# Altium schematic symbol library ic.SchLib: 24 symbols
Pins are listed as number, name and electrical type; pins without a type are passive.

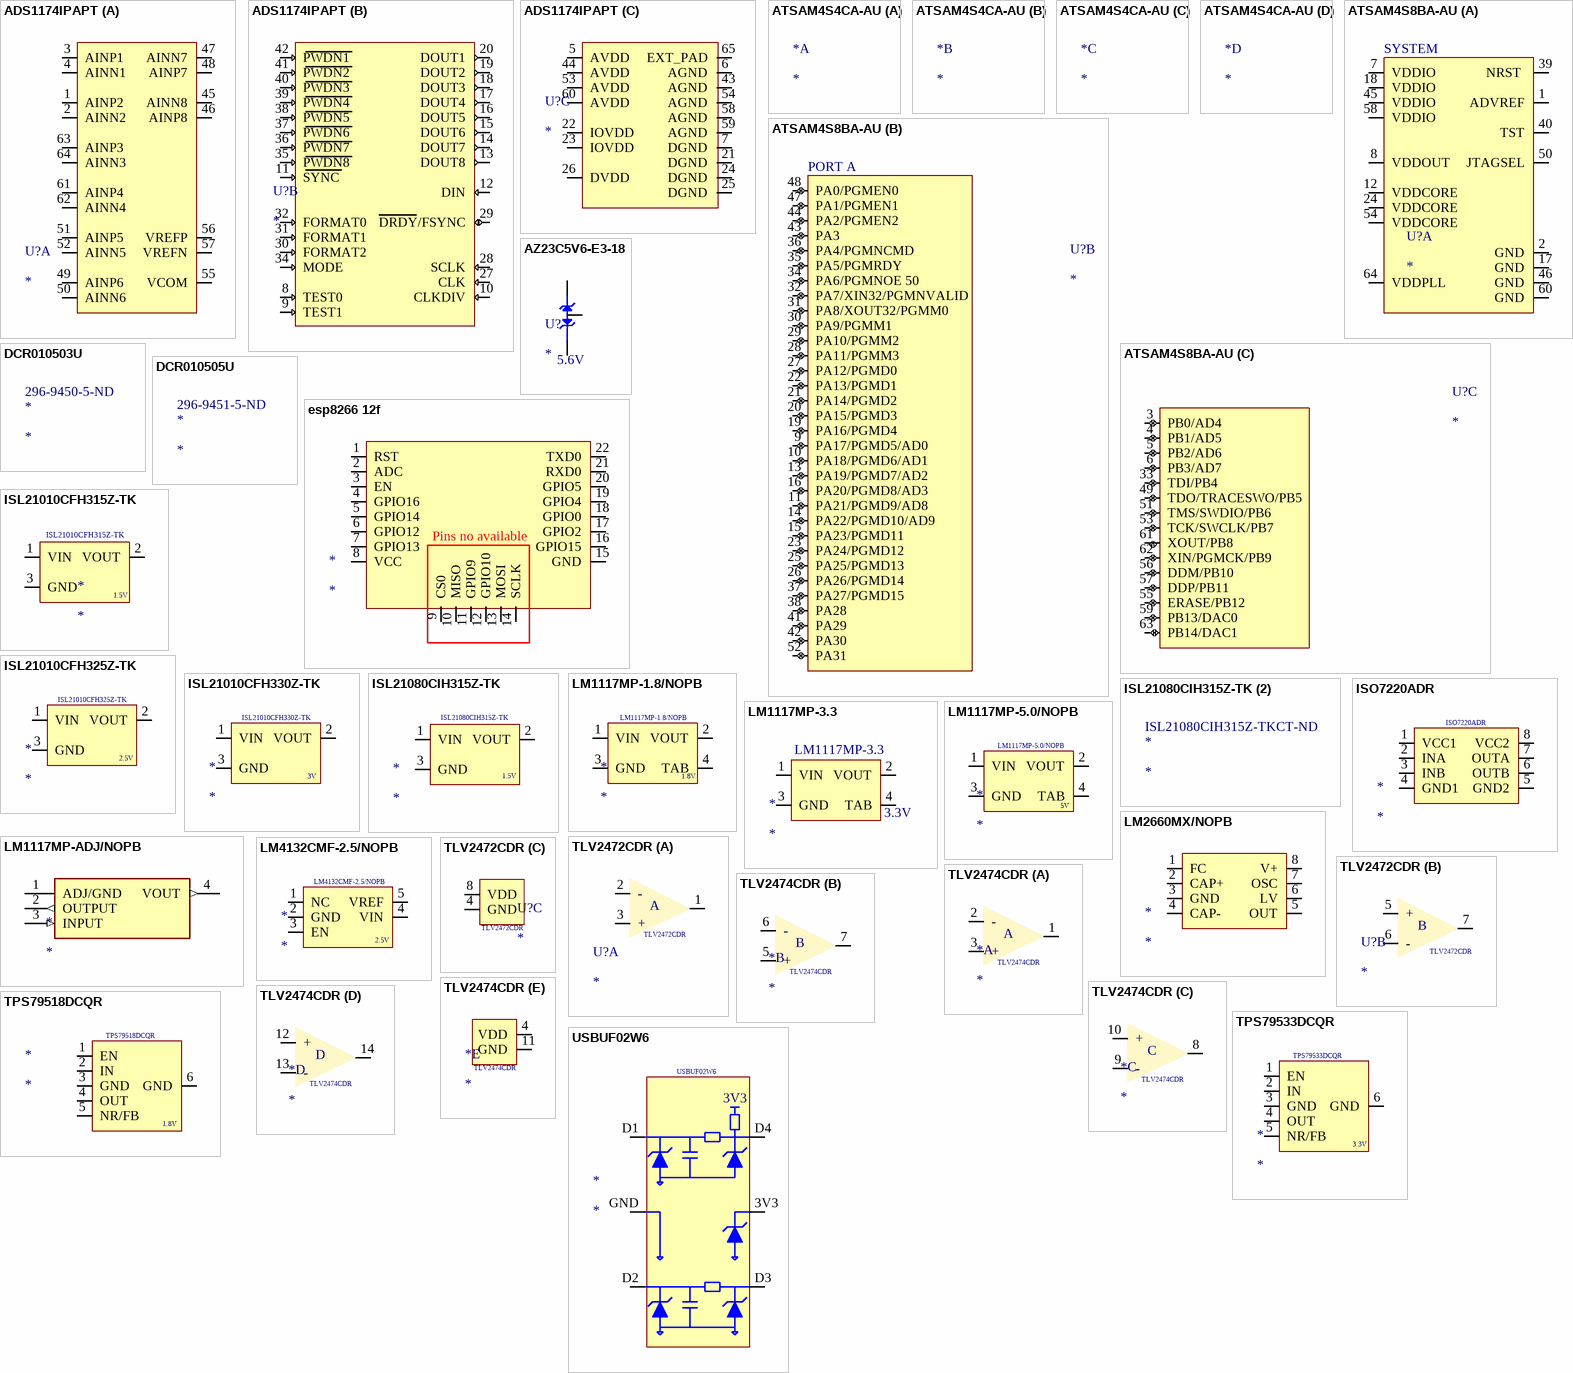
[diagram p0: symbols ADS1174IPAPT to USBUF02W6]

## ADS1174IPAPT
designator U?
Octal Channel Quad ADC Delta-Sigma 52ksps 16-bit Serial 64-Pin HTQFP EP T/R; Manufacturer 1: Texas Instruments; Manufacturer Part Number 1: ADS1174IPAPT; Number of Inputs: 4; Interface: SPI; Nominal Supply Current: 23mA; Max Supply Voltage: 5.25V; Min Supply Voltage: 4.75V; Max Power Dissipation: 210mW; Operating Supply Voltage: 5V; Resolution: 16b; Number of Bits: 16; Sampling Rate: 52KS/s; Signal to Noise Ratio (SNR): 97dB; Number of Analog Inputs: 8; Polarity: Bipolar; Power Dissipation: 135mW; Supply Type: Analog,Digital; Integral Nonlinearity (INL): 1LSB; Input Type: SINGLE-ENDED; Supplier 1: Digi-Key; Stock 1: 229; Pricing 1: 1=16,29000, 10=14,97100, 25=14,35040, 100=12,80650 (USD); RoHS: Yes; Mount: Surface Mount; Case/Package: HTQFP; Number of Pins: 64; Contact Plating: Gold; Min Operating Temperature: -40°C; Max Operating Temperature: 85°C; Number of Channels: 4; Package Quantity: 250; Packaging: Tape and Reel; Number of Converters: 4; Termination: SMD/SMT; Number of A/D Converters: 4; Number of Elements: 4; Conversion Rate: 52KS/s; Power Consumption: 135mW; Differential Nonlinearity: 1LSB; Supply Current: 23mA; Length: 10.2mm; Width: 10.2mm; Height: 1.05mm; REACH SVHC: No SVHC; Lead Free: Lead Free; RoHS Compliant: Yes; ComponentLink1URL: https://datasheet.ciiva.com/7226/46094-7226797.pdf?src-supplier=Newark; ComponentLink1Description: https://datasheet.ciiva.com/7226/46094-7226797.pdf?src-supplier=Newark; ComponentLink2URL: https://datasheet.ciiva.com/41461/001186699-da-01-en-ic-adc-16bit-q-ads1174ipapt-htqfp-64-tid-41461041.pdf?src-supplier=Conrad; ComponentLink2Description: https://datasheet.ciiva.com/41461/001186699-da-01-en-ic-adc-16bit-q-ads1174ipapt-htqfp-64-tid-41461041.pdf?src-supplier=Conrad; ComponentLink3URL: https://datasheet.ciiva.com/26800/ads1174ipapt-26800957.pdf?src-supplier=IIIC; ComponentLink3Description: https://datasheet.ciiva.com/26800/ads1174ipapt-26800957.pdf?src-supplier=IIIC; ComponentLink4URL: https://datasheet.ciiva.com/1704/1831206-1704289.pdf?src-supplier=Element14; ComponentLink4Description: https://datasheet.ciiva.com/1704/1831206-1704289.pdf?src-supplier=Element14; ComponentLink5URL: https://datasheet.ciiva.com/1264/ads1174-1264637.pdf?src-supplier=Digi-Key; ComponentLink5Description: https://datasheet.ciiva.com/1264/ads1174-1264637.pdf?src-supplier=Digi-Key; ComponentLink6URL: https://datasheet.ciiva.com/1264/ads1174-1264636.pdf?src-supplier=Digi-Key; ComponentLink6Description: https://datasheet.ciiva.com/1264/ads1174-1264636.pdf?src-supplier=Digi-Key; ComponentLink7URL: https://datasheet.ciiva.com/1264/ads1174-1264638.pdf?src-supplier=Digi-Key; ComponentLink7Description: https://datasheet.ciiva.com/1264/ads1174-1264638.pdf?src-supplier=Digi-Key; ComponentLink8URL: https://datasheet.ciiva.com/14257/sbas373b-14257851.pdf?src-supplier=Avnet; ComponentLink8Description: https://datasheet.ciiva.com/14257/sbas373b-14257851.pdf?src-supplier=Avnet; Supplier Part Number 1: 296-22951-1-ND
footprint adc
part A pins: 1 AINP2, 2 AINN2, 3 AINP1, 4 AINN1, 45 AINN8, 46 AINP8, 47 AINN7, 48 AINP7, 49 AINP6, 50 AINN6, 51 AINP5, 52 AINN5, 55 VCOM, 56 VREFP, 57 VREFN, 61 AINP4, 62 AINN4, 63 AINP3, 64 AINN3
part B pins: 8 TEST0, 9 TEST1, 10 CLKDIV, 11 SYNC, 12 DIN, 13 DOUT8, 14 DOUT7, 15 DOUT6, 16 DOUT5, 17 DOUT4, 18 DOUT3, 19 DOUT2, 20 DOUT1, 27 CLK, 28 SCLK, 29 DRDY/FSYNC, 30 FORMAT2, 31 FORMAT1, 32 FORMAT0, 34 MODE, 35 PWDN8, 36 PWDN7, 37 PWDN6, 38 PWDN5, 39 PWDN4, 40 PWDN3, 41 PWDN2, 42 PWDN1
part C pins: 5 AVDD, 6 AGND, 7 DGND, 21 DGND, 22 IOVDD, 23 IOVDD, 24 DGND, 25 DGND, 26 DVDD, 43 AGND, 44 AVDD, 53 AVDD, 54 AGND, 58 AGND, 59 AGND, 60 AVDD, 65 EXT_PAD

## ATSAM4S4CA-AU
designator *
ATMEL         ATSAM4S4CA-AU            32 Bit Microcontroller, SAM4S Series, ARM Cortex-M4, 120 MHz, 256 KB, 64 KB, 100 Pins, LQFP; Manufacturer 1: Microchip / Atmel; Min Supply Voltage: 1.08V; Max Supply Voltage: 1.32V; Frequency: 120MHz; Interface: I2C,SPI,USB,IrDA,UART,USART,EBI/EMI,I2S; Number of I/Os: 79; Oscillator Type: Internal; RAM Size: 64KB; Memory Type: FLASH; Memory Size: 256KB; Data Bus Width: 32b; Number of ADC Channels: 16; Number of Timers/Counters: 2; Peripherals: Brown-out Detect/Reset,POR,PWM,WDT,DMA; Operating Supply Voltage: 1.2V; Supplier 1: Future Electronics; Manufacturer Part Number 1: ATSAM4S4CA-AU; Stock 1: 0; RoHS: Yes; Case/Package: LQFP; Number of Pins: 100; Weight: 0.04653oz; Min Operating Temperature: -40°C; Max Operating Temperature: 85°C; Package Quantity: 160; Packaging: Tray; Max Frequency: 120MHz; Core Architecture: ARM; RoHS Compliant: Yes; REACH SVHC: No SVHC; Lead Free: Lead Free; ComponentLink1URL: http://www.atmel.com/images/11177d-atarm4s_e_us_121013_web%20final.pdf?src-supplier=Mouser; ComponentLink1Description: http://www.atmel.com/images/11177d-atarm4s_e_us_121013_web%20final.pdf?src-supplier=Mouser; ComponentLink2URL: http://www.farnell.com/datasheets/1794215.pdf?src-supplier=Element14; ComponentLink2Description: http://www.farnell.com/datasheets/1794215.pdf?src-supplier=Element14; Supplier Part Number 1: ATSAM4S4CA-AU

## ATSAM4S8BA-AU
designator U?
MICROCONTROLLER MCU, 32 BIT, CORTEX-M4, 120MHZ, LQFP-64; Architecture:ARM Cortex-M4; CPU Speed:120MHz; Program Memory Size:512KB; RAM Memory Size:128KB; No. of Pins:64; MCU Case Style:LQFP; No. of I/Os:47; Supply Voltage Min:1.62V ;RoHS Compliant: Yes; Manufacturer 1: Microchip / Atmel; Manufacturer Part Number 1: ATSAM4S8BA-AU; Min Supply Voltage: 1.62V; Max Supply Voltage: 3.6V; Number of PWM Channels: 4; RAM Size: 128KB; Number of Timers/Counters: 2; Number of ADC Channels: 11; Number of USB Channels: 1; Data Bus Width: 32b; Interface: I2C,SPI,USB,IrDA,MMC,UART,USART; Oscillator Type: Internal; Number of I/Os: 47; Max Frequency: 32MHz; Memory Type: FLASH,ROM; Memory Size: 512KB; Peripherals: Brown-out Detect/Reset,POR,PWM,WDT,DMA; Core Architecture: ARM; Supplier 1: Future Electronics; Stock 1: 0; RoHS: Yes; Mount: Surface Mount; Case/Package: LQFP; Number of Pins: 64; Min Operating Temperature: -40°C; Max Operating Temperature: 85°C; Package Quantity: 160; Packaging: Tray; Frequency: 120MHz; Number of SPI Channels: 1; Number of I2C Channels: 2; Watchdog Timer: Yes; Number of UART Channels: 2; Series: SAM4S; Length: 12mm; Width: 10mm; Height: 1.6mm; Radiation Hardening: No; REACH SVHC: No SVHC; Lead Free: Lead Free; RoHS Compliant: Yes; ComponentLink1URL: https://datasheet.ciiva.com/12272/doc11100-52688-12272160.pdf?src-supplier=Mouser; ComponentLink1Description: https://datasheet.ciiva.com/12272/doc11100-52688-12272160.pdf?src-supplier=Mouser; ComponentLink2URL: https://datasheet.ciiva.com/30476/0900766b811a941e-30476054.pdf?src-supplier=RSComponents; ComponentLink2Description: https://datasheet.ciiva.com/30476/0900766b811a941e-30476054.pdf?src-supplier=RSComponents; ComponentLink3URL: https://datasheet.ciiva.com/8010/1653605-8010699.pdf?src-supplier=Element14; ComponentLink3Description: https://datasheet.ciiva.com/8010/1653605-8010699.pdf?src-supplier=Element14; Supplier Part Number 1: ATSAM4S8BA-AU-TRAY
footprint arm ok
part A pins: 1 ADVREF, 2 GND, 7 VDDIO, 8 VDDOUT, 12 VDDCORE, 17 GND, 18 VDDIO, 24 VDDCORE, 39 NRST , 40 TST, 45 VDDIO, 46 GND, 50 JTAGSEL, 54 VDDCORE, 58 VDDIO, 60 GND, 64 VDDPLL
part B pins: 9 PA17/PGMD5/AD0, 10 PA18/PGMD6/AD1, 11 PA21/PGMD9/AD8, 13 PA19/PGMD7/AD2, 14 PA22/PGMD10/AD9, 15 PA23/PGMD11, 16 PA20/PGMD8/AD3, 19 PA16/PGMD4, 20 PA15/PGMD3, 21 PA14/PGMD2, 22 PA13/PGMD1, 23 PA24/PGMD12, 25 PA25/PGMD13, 26 PA26/PGMD14, 27 PA12/PGMD0, 28 PA11/PGMM3, 29 PA10/PGMM2, 30 PA9/PGMM1, 31 PA8/XOUT32/PGMM0, 32 PA7/XIN32/PGMNVALID, 34 PA6/PGMNOE 50, 35 PA5/PGMRDY, 36 PA4/PGMNCMD, 37 PA27/PGMD15, 38 PA28, 41 PA29, 42 PA30, 43 PA3, 44 PA2/PGMEN2, 47 PA1/PGMEN1, 48 PA0/PGMEN0, 52 PA31
part C pins: 3 PB0/AD4, 4 PB1/AD5, 5 PB2/AD6, 6 PB3/AD7, 33 TDI/PB4, 49 TDO/TRACESWO/PB5, 51 TMS/SWDIO/PB6, 53 TCK/SWCLK/PB7, 55 ERASE/PB12, 56 DDM/PB10, 57 DDP/PB11, 59 PB13/DAC0, 61 XOUT/PB8, 62 XIN/PGMCK/PB9, 63 PB14/DAC1
part A text: SYSTEM
part B text: PORT A

## AZ23C5V6-E3-18
designator U?  Zener Voltage: 5.6V
DIODE ZENER ARRAY 5.6V SOT23; Manufacturer 1: Vishay; Manufacturer Part Number 1: AZ23C5V6-E3-18; Element Configuration: Common Anode; Tolerance: 7%; Voltage Tolerance: 5%; Power Dissipation: 300mW; Impedance: 10R; Test Current: 5mA; Max Reverse Leakage Current: 100nA; Supplier 1: Digi-Key; Stock 1: 1285; Pricing 1: 1=0,33000, 10=0,27200, 100=0,14420, 500=0,09488, 1000=0,06452, 2000=0,05819, 5000=0,05060 (USD); RoHS: Yes; Mount: Surface Mount; Case/Package: SOT-23; Number of Pins: 3; Weight: 0.00031oz; Min Operating Temperature: -55°C; Max Operating Temperature: 150°C; Packaging: Tape and Reel; Package Quantity: 1; Max Power Dissipation: 300mW; Length: 3.1mm; Width: 1.43mm; Height: 1.05mm; Lead Free: Lead Free; RoHS Compliant: Yes; ComponentLink1URL: https://datasheet.ciiva.com/29124/az23-29124365.pdf?src-supplier=Digi-Key; ComponentLink1Description: https://datasheet.ciiva.com/29124/az23-29124365.pdf?src-supplier=Digi-Key; ComponentLink2URL: https://datasheet.ciiva.com/29124/az23-29124366.pdf?src-supplier=Digi-Key; ComponentLink2Description: https://datasheet.ciiva.com/29124/az23-29124366.pdf?src-supplier=Digi-Key; ComponentLink3URL: https://datasheet.ciiva.com/29124/az23-29124367.pdf?src-supplier=Digi-Key; ComponentLink3Description: https://datasheet.ciiva.com/29124/az23-29124367.pdf?src-supplier=Digi-Key; Supplier Part Number 1: AZ23C5V6-E3-18CT-ND
pins: 80, 81, 82

## DCR010503U
designator *  Supplier Part Number 1: 296-9450-5-ND
TEXAS INSTRUMENTS - DCR010503U - ISOLATED REGULATED DC/DC CONVERTER, SOP12; Number of Outputs: 1; Output Voltage: 3.3V; Output Current: 300mA; Output Power: 1W; Max Input Voltage: 5.5V; Min Input Voltage: 4.5V; Switching Frequency: 880kHz; Isolation Voltage: 1kV; Max Output Voltage: 3.366V; Min Output Voltage: 3.234V; Quiescent Current: 24mA; Output Type: Fixed; Supplier 1: Digi-Key; Manufacturer 1: Texas Instruments; Manufacturer Part Number 1: DCR010503U; Stock 1: 1973; Pricing 1: 1=12,18000 (USD); RoHS: Yes; Case/Package: SOP; Number of Pins: 12; Min Operating Temperature: -40°C; Max Operating Temperature: 85°C; Packaging: Rail/Tube; Package Quantity: 28; Max Output Current: 300mA; Voltage - Output 1: 3.3V; Current - Output 1: 300mA; Max Output Power: 1W; Max Power Dissipation: 1W; Features: OTP,SCP; Series: DCR01; Length: 0.7inch; Width: 0.41inch; Height: 0.1inch; Radiation Hardening: No; Lead Free: Lead Free; ComponentLink1URL: https://datasheet.ciiva.com/27052/1339313-27052035.pdf?src-supplier=Jameco; ComponentLink1Description: https://datasheet.ciiva.com/27052/1339313-27052035.pdf?src-supplier=Jameco; ComponentLink2URL: https://datasheet.ciiva.com/15113/getdatasheetpartid-188248-15113676.pdf?src-supplier=Verical; ComponentLink2Description: https://datasheet.ciiva.com/15113/getdatasheetpartid-188248-15113676.pdf?src-supplier=Verical; ComponentLink3URL: https://datasheet.ciiva.com/26901/dcr010503u-26901990.pdf?src-supplier=IIIC; ComponentLink3Description: https://datasheet.ciiva.com/26901/dcr010503u-26901990.pdf?src-supplier=IIIC; ComponentLink4URL: https://datasheet.ciiva.com/2027/dcr010503-2027034.pdf?src-supplier=Digi-Key; ComponentLink4Description: https://datasheet.ciiva.com/2027/dcr010503-2027034.pdf?src-supplier=Digi-Key; ComponentLink5URL: https://datasheet.ciiva.com/3219/sbvs013c-3219833.pdf?src-supplier=Avnet; ComponentLink5Description: https://datasheet.ciiva.com/3219/sbvs013c-3219833.pdf?src-supplier=Avnet; ComponentLink6URL: https://datasheet.ciiva.com/26098/sbvs013c-26098893.pdf?src-supplier=Avnet+Europe; ComponentLink6Description: https://datasheet.ciiva.com/26098/sbvs013c-26098893.pdf?src-supplier=Avnet+Europe; ComponentLink7URL: https://datasheet.ciiva.com/48695/001206974-da-01-en-ic-reg-isolated-3-dcr010503u-sop-12-tid-48695303.pdf?src-supplier=Conrad; ComponentLink7Description: https://datasheet.ciiva.com/48695/001206974-da-01-en-ic-reg-isolated-3-dcr010503u-sop-12-tid-48695303.pdf?src-supplier=Conrad

## DCR010505U
designator *  Supplier Part Number 1: 296-9451-5-ND
Conv DC-DC Single 12-Pin SOP Tube; Manufacturer 1: Texas Instruments; Manufacturer Part Number 1: DCR010505U; Output Power: 1W; Output Voltage: 5V; Output Current: 200mA; Switching Frequency: 880kHz; Max Input Voltage: 5.5V; Min Input Voltage: 4.5V; Number of Outputs: 1; Isolation Voltage: 1kV; Max Output Voltage: 5.1V; Min Output Voltage: 4.9V; Quiescent Current: 25mA; Output Type: Fixed; Supplier 1: Digi-Key; Stock 1: 0; Pricing 1: 1=12,18000 (USD); RoHS: Yes; Case/Package: SOP; Number of Pins: 12; Min Operating Temperature: -40°C; Max Operating Temperature: 85°C; Package Quantity: 28; Max Output Current: 200mA; Voltage - Output 1: 5V; Current - Output 1: 200mA; Packaging: Rail/Tube; Max Output Power: 1W; Max Power Dissipation: 1W; Features: OTP,SCP; Nominal Output Voltage: 5V; Min Input Voltage (DC): 4.5V; Max Input Voltage (DC): 5.5V; Length: 0.7inch; Width: 0.41inch; Height: 0.1inch; Lead Free: Lead Free; RoHS Compliant: Yes; REACH SVHC: No SVHC; ComponentLink1URL: https://datasheet.ciiva.com/19456/900455-19456021.pdf?src-supplier=Jameco; ComponentLink1Description: https://datasheet.ciiva.com/19456/900455-19456021.pdf?src-supplier=Jameco; ComponentLink2URL: https://datasheet.ciiva.com/26901/dcr010505u-26901994.pdf?src-supplier=IIIC; ComponentLink2Description: https://datasheet.ciiva.com/26901/dcr010505u-26901994.pdf?src-supplier=IIIC; ComponentLink3URL: https://datasheet.ciiva.com/2035/dcr010503-2035814.pdf?src-supplier=Digi-Key; ComponentLink3Description: https://datasheet.ciiva.com/2035/dcr010503-2035814.pdf?src-supplier=Digi-Key; ComponentLink4URL: https://datasheet.ciiva.com/26229/dcr012405-26229133.pdf?src-supplier=Avnet+Europe; ComponentLink4Description: https://datasheet.ciiva.com/26229/dcr012405-26229133.pdf?src-supplier=Avnet+Europe; ComponentLink5URL: https://datasheet.ciiva.com/1162/1864370-1162454.pdf?src-supplier=Element14; ComponentLink5Description: https://datasheet.ciiva.com/1162/1864370-1162454.pdf?src-supplier=Element14; ComponentLink6URL: https://datasheet.ciiva.com/3221/dcr012405-3221615.pdf?src-supplier=Avnet; ComponentLink6Description: https://datasheet.ciiva.com/3221/dcr012405-3221615.pdf?src-supplier=Avnet

## esp8266 12f
designator *
pins: 1 RST, 2 ADC, 3 EN, 4 GPIO16, 5 GPIO14, 6 GPIO12, 7 GPIO13, 8 VCC, 9 CS0, 10 MISO, 11 GPIO9, 12 GPIO10, 13 MOSI, 14 SCLK, 15 GND, 16 GPIO15, 17 GPIO2, 18 GPIO0, 19 GPIO4, 20 GPIO5, 21 RXD0, 22 TXD0
text: Pins no available

## ISL21010CFH315Z-TK
designator *  Manufacturer Part Number 1: ISL21010CFH315Z-TK  Reference Voltage: 1.5V
INTERSIL         ISL21010CFH315Z-TK             Voltage Reference, Precision Micropower, Series - Fixed, ISL21010 Series, 1.5V, SOT-23-3; Max Input Voltage: 6.5V; Max Output Current: 25mA; Tolerance: 0.2%; Temperature Coefficient: 50ppm/°C; Operating Supply Current: 100uA; Number of Channels: 1; Min Input Voltage: 2.2V; Quiescent Current: 80uA; Max Supply Voltage: 5.5V; Supplier 1: Avnet; Manufacturer 1: Intersil; Stock 1: 0; Pricing 1: 2000=0,81760, 4000=0,80080, 6000=0,78400, 10000=0,76720, 20000=0,75040, 100000=0,73360, 200000=0,71680 (USD); RoHS: Yes; Mount: Surface Mount; Case/Package: TO-236-3; Number of Pins: 3; Min Operating Temperature: -40°C; Max Operating Temperature: 125°C; Output Voltage: 1.5V; Packaging: Cut Tape; Min Output Voltage: 1.5V; Output Current: 25mA; Reference Type: Series; Output Type: Fixed; Package Quantity: 1000; Max Supply Current: 100uA; Radiation Hardening: No; REACH SVHC: No SVHC; Lead Free: Lead Free; ComponentLink1URL: https://datasheet.ciiva.com/17218/fn7896-17218418.pdf?src-supplier=Avnet+Europe; ComponentLink1Description: https://datasheet.ciiva.com/17218/fn7896-17218418.pdf?src-supplier=Avnet+Europe; ComponentLink2URL: https://datasheet.ciiva.com/15062/fn7896-15062646.pdf?src-supplier=Digi-Key; ComponentLink2Description: https://datasheet.ciiva.com/15062/fn7896-15062646.pdf?src-supplier=Digi-Key; ComponentLink3URL: https://datasheet.ciiva.com/15062/fn7896-15062647.pdf?src-supplier=Digi-Key; ComponentLink3Description: https://datasheet.ciiva.com/15062/fn7896-15062647.pdf?src-supplier=Digi-Key; ComponentLink4URL: https://datasheet.ciiva.com/22734/1599533-22734604.pdf?src-supplier=Element14; ComponentLink4Description: https://datasheet.ciiva.com/22734/1599533-22734604.pdf?src-supplier=Element14; Supplier Part Number 1: ISL21010CFH315Z-TK
pins: 1 VIN, 2 VOUT, 3 GND

## ISL21010CFH325Z-TK
designator *  Manufacturer Part Number 1: ISL21010CFH325Z-TK  Output Voltage: 2.5V
PbFree,Precision 2.50V Low Volt. Bandgap References,0.2%,-40; Manufacturer 1: Intersil; Max Input Voltage: 5.5V; Max Output Current: 25mA; Number of Channels: 1; Min Input Voltage: 2.6V; Temperature Coefficient: 50ppm/°C; Operating Supply Current: 100uA; Quiescent Current: 80uA; Reference Type: Series; Output Type: Fixed; Supplier 1: Avnet; Stock 1: 0; Pricing 1: 2000=0,81760, 4000=0,80080, 6000=0,78400, 10000=0,76720, 20000=0,75040, 100000=0,73360, 200000=0,71680 (USD); RoHS: Yes; Mount: Surface Mount; Case/Package: SOT-23-3; Number of Pins: 3; Min Operating Temperature: -40°C; Max Operating Temperature: 125°C; Package Quantity: 1000; Packaging: Tape and Reel; Tolerance: 0.2%; Min Output Voltage: 2.5V; Output Current: 25mA; Max Supply Current: 100uA; Max Supply Voltage: 5.5V; Series: ISL21010CFH325; Radiation Hardening: No; RoHS Compliant: Yes; ComponentLink1URL: https://datasheet.ciiva.com/3237/fn7896-3237424.pdf?src-supplier=Avnet; ComponentLink1Description: https://datasheet.ciiva.com/3237/fn7896-3237424.pdf?src-supplier=Avnet; ComponentLink2URL: https://datasheet.ciiva.com/15062/fn7896-15062648.pdf?src-supplier=Digi-Key; ComponentLink2Description: https://datasheet.ciiva.com/15062/fn7896-15062648.pdf?src-supplier=Digi-Key; ComponentLink3URL: https://datasheet.ciiva.com/15062/fn7896-15062649.pdf?src-supplier=Digi-Key; ComponentLink3Description: https://datasheet.ciiva.com/15062/fn7896-15062649.pdf?src-supplier=Digi-Key; ComponentLink4URL: https://datasheet.ciiva.com/17218/fn7896-17218999.pdf?src-supplier=Avnet+Europe; ComponentLink4Description: https://datasheet.ciiva.com/17218/fn7896-17218999.pdf?src-supplier=Avnet+Europe; Supplier Part Number 1: ISL21010CFH325Z-TK
pins: 1 VIN, 2 VOUT, 3 GND

## ISL21010CFH330Z-TK
designator *  Manufacturer Part Number 1: ISL21010CFH330Z-TK  Reference Voltage: 3V
INTERSIL         ISL21010CFH330Z-TK             Voltage Reference, Precision Micropower, Series - Fixed, ISL21010 Series, 3V, SOT-23-3; Max Input Voltage: 6.5V; Max Output Current: 25mA; Tolerance: 0.2%; Number of Channels: 1; Temperature Coefficient: 50ppm/°C; Quiescent Current: 80uA; Max Supply Current: 100uA; Max Supply Voltage: 5.5V; Reference Type: Series,Fixed; Supplier 1: Avnet; Manufacturer 1: Intersil; Stock 1: 0; Pricing 1: 2000=0,81760, 4000=0,80080, 6000=0,78400, 10000=0,76720, 20000=0,75040, 100000=0,73360, 200000=0,71680 (USD); RoHS: Yes; Mount: Surface Mount; Case/Package: SOT-23; Number of Pins: 3; Min Operating Temperature: -40°C; Max Operating Temperature: 125°C; Output Voltage: 3V; Packaging: Tape and Reel; Package Quantity: 1000; Output Current: 25mA; Max Output Voltage: 3V; Series: ISL21010CFH330; Length: 2.92mm; Width: 1.3mm; Height: 0.91mm; Radiation Hardening: No; RoHS Compliant: Yes; REACH SVHC: No SVHC; ComponentLink1URL: https://datasheet.ciiva.com/1172/1599533-1172856.pdf?src-supplier=Element14; ComponentLink1Description: https://datasheet.ciiva.com/1172/1599533-1172856.pdf?src-supplier=Element14; Supplier Part Number 1: ISL21010CFH330Z-TK
pins: 1 VIN, 2 VOUT, 3 GND

## ISL21080CIH315Z-TK
designator *  Manufacturer Part Number 1: ISL21080CIH315Z-TK
ISL21080 Series 1.5 V 0.5% 300nA NanoPower Voltage Reference - SOT-23-3; Manufacturer 1: Renesas; Supplier 1: Digi-Key; Stock 1: 1020; Pricing 1: 1=1,66000, 10=1,48900, 25=1,40440, 100=1,19660, 250=1,12360, 500=0,98316 (USD); RoHS: Yes; RoHS Compliant: Yes; ComponentLink1URL: http://www.farnell.com/datasheets/2354212.pdf?src-supplier=Farnell; ComponentLink1Description: http://www.farnell.com/datasheets/2354212.pdf?src-supplier=Farnell; ComponentLink2URL: http://www.farnell.com/datasheets/2354212.pdf?src-supplier=Newark; ComponentLink2Description: http://www.farnell.com/datasheets/2354212.pdf?src-supplier=Newark; ComponentLink3URL: http://www.farnell.com/datasheets/2354212.pdf?src-supplier=Element14; ComponentLink3Description: http://www.farnell.com/datasheets/2354212.pdf?src-supplier=Element14; ComponentLink4URL: http://www.farnell.com/datasheets/1492089.pdf?src-supplier=Newark; ComponentLink4Description: http://www.farnell.com/datasheets/1492089.pdf?src-supplier=Newark; Supplier Part Number 1: ISL21080CIH315Z-TKCT-ND
pins: 1 VIN, 2 VOUT, 3 GND
text: 1.5V

## ISL21080CIH315Z-TK (2)
designator *  Supplier Part Number 1: ISL21080CIH315Z-TKCT-ND
ISL21080 Series 1.5 V 0.5% 300nA NanoPower Voltage Reference - SOT-23-3; Manufacturer 1: Renesas; Manufacturer Part Number 1: ISL21080CIH315Z-TK; Supplier 1: Digi-Key; Stock 1: 8637; Pricing 1: 1=1,66000, 10=1,48900, 25=1,40440, 100=1,19660, 250=1,12360, 500=0,98316 (USD); RoHS: Yes; RoHS Compliant: Yes; ComponentLink1URL: http://www.farnell.com/datasheets/2354212.pdf?src-supplier=Farnell; ComponentLink1Description: http://www.farnell.com/datasheets/2354212.pdf?src-supplier=Farnell; ComponentLink2URL: http://www.farnell.com/datasheets/2354212.pdf?src-supplier=Newark; ComponentLink2Description: http://www.farnell.com/datasheets/2354212.pdf?src-supplier=Newark; ComponentLink3URL: http://www.farnell.com/datasheets/2354212.pdf?src-supplier=Element14; ComponentLink3Description: http://www.farnell.com/datasheets/2354212.pdf?src-supplier=Element14; ComponentLink4URL: http://www.farnell.com/datasheets/1492089.pdf?src-supplier=Newark; ComponentLink4Description: http://www.farnell.com/datasheets/1492089.pdf?src-supplier=Newark

## ISO7220ADR
designator *  Manufacturer Part Number 1: ISO7220ADR
Digital Isolator 8-Pin SOIC T/R; Manufacturer 1: Texas Instruments; Number of Channels: 2; Data Rate: 1Mbps; Propagation Delay: 475ns; Min Supply Voltage: 3V; Max Supply Voltage: 5.5V; Channel Type: Unidirectional; Isolated Power: No; Pulse Width Distortion (PWD): 14ns; Nominal Supply Current: 17mA; Supplier 1: Digi-Key; Stock 1: 0; Pricing 1: 1=3,02000, 10=2,71200, 25=2,56400, 100=2,22200, 250=2,10808, 500=1,89156, 1000=1,88125 (USD); RoHS: Yes; Case/Package: SOIC; Number of Pins: 8; Weight: 0.019048oz; Contact Plating: Gold; Min Operating Temperature: -40°C; Max Operating Temperature: 125°C; Packaging: Tape and Reel; Package Quantity: 1; Polarity: Unidirectional; Turn-On Delay Time: 475ns; Type: General Purpose; Series: -; Supply Current: 17mA; Radiation Hardening: No; Lead Free: Lead Free; RoHS Compliant: Yes; REACH SVHC: No SVHC; ComponentLink1URL: https://datasheet.ciiva.com/15134/getdatasheetpartid-293133-15134627.pdf?src-supplier=Verical; ComponentLink1Description: https://datasheet.ciiva.com/15134/getdatasheetpartid-293133-15134627.pdf?src-supplier=Verical; ComponentLink2URL: https://datasheet.ciiva.com/1602/1681085-1602065.pdf?src-supplier=Newark; ComponentLink2Description: https://datasheet.ciiva.com/1602/1681085-1602065.pdf?src-supplier=Newark; ComponentLink3URL: https://datasheet.ciiva.com/2081/iso7220a-2081986.pdf?src-supplier=Digi-Key; ComponentLink3Description: https://datasheet.ciiva.com/2081/iso7220a-2081986.pdf?src-supplier=Digi-Key; ComponentLink4URL: https://datasheet.ciiva.com/2081/iso7220a-2081987.pdf?src-supplier=Digi-Key; ComponentLink4Description: https://datasheet.ciiva.com/2081/iso7220a-2081987.pdf?src-supplier=Digi-Key; ComponentLink5URL: https://datasheet.ciiva.com/2081/iso7220a-2081988.pdf?src-supplier=Digi-Key; ComponentLink5Description: https://datasheet.ciiva.com/2081/iso7220a-2081988.pdf?src-supplier=Digi-Key; ComponentLink6URL: https://datasheet.ciiva.com/1496/1805905-1496535.pdf?src-supplier=Element14; ComponentLink6Description: https://datasheet.ciiva.com/1496/1805905-1496535.pdf?src-supplier=Element14; Supplier Part Number 1: 296-21952-6-ND
pins: 1 VCC1, 2 INA, 3 INB, 4 GND1, 5 GND2, 6 OUTB, 7 OUTA, 8 VCC2

## LM1117MP-1.8/NOPB
designator *  Manufacturer Part Number 1: LM1117MP-1.8/NOPB  Max Output Voltage: 1.8V
Fixed Positive LDO Regulator, 1.8V, 1.3V Dropout, BIPolar, PDSO4; Manufacturer 1: TI National Semiconductor; Number of Terminals/Pins: 4; Number of Outputs: 1; Max Input Voltage: 15V; Max Output Current: 800mA; Quiescent Current: 5mA; Accuracy: 1%; Dropout Voltage: 1.2V; Min Input Voltage: 2.6V; Current Rating: 800A; Max Supply Current: 10mA; Power Supply Rejection Ratio (PSRR): 75dB; Supplier 1: Digi-Key; Stock 1: 994; Pricing 1: 1=1,41000, 10=1,26300, 25=1,19920, 100=0,98500, 250=0,92072, 500=0,81366 (USD); RoHS: Yes; Mount: Surface Mount; Case/Package: SOT-223; Number of Pins: 4; Contact Plating: Tin,Matte; Terminal Finish: Tin; Min Operating Temperature: 0°C; Max Operating Temperature: 125°C; Output Voltage: 1.8V; Polarity: Positive; Output Type: Fixed; Output Current: 800mA; Package Quantity: 1000; Packaging: Tape and Reel; Nominal Output Voltage: 1.8V; Output Voltage Accuracy: 1%; Series: -; Output Configuration: Positive; Number of Regulators: 1; Terminal Form: SMD/SMT; Moisture Sensitivity Level: 1; Termination: SMD/SMT; Length: 6.5mm; Width: 3.56mm; Height: 1.6mm; Radiation Hardening: No; REACH SVHC: No SVHC; Lead Free: Lead Free; ComponentLink1URL: https://datasheet.ciiva.com/34302/1282062-34302143.pdf?src-supplier=Jameco; ComponentLink1Description: https://datasheet.ciiva.com/34302/1282062-34302143.pdf?src-supplier=Jameco; ComponentLink2URL: https://datasheet.ciiva.com/26904/lm1117mp-1-8-nopb-26904877.pdf?src-supplier=IIIC; ComponentLink2Description: https://datasheet.ciiva.com/26904/lm1117mp-1-8-nopb-26904877.pdf?src-supplier=IIIC; ComponentLink3URL: https://datasheet.ciiva.com/2047/lm1117-n-2047309.pdf?src-supplier=Digi-Key; ComponentLink3Description: https://datasheet.ciiva.com/2047/lm1117-n-2047309.pdf?src-supplier=Digi-Key; ComponentLink4URL: https://datasheet.ciiva.com/2047/lm1117-n-2047310.pdf?src-supplier=Digi-Key; ComponentLink4Description: https://datasheet.ciiva.com/2047/lm1117-n-2047310.pdf?src-supplier=Digi-Key; ComponentLink5URL: https://datasheet.ciiva.com/2047/lm1117-n-2047311.pdf?src-supplier=Digi-Key; ComponentLink5Description: https://datasheet.ciiva.com/2047/lm1117-n-2047311.pdf?src-supplier=Digi-Key; ComponentLink6URL: https://datasheet.ciiva.com/1570/1849796-1570200.pdf?src-supplier=Farnell; ComponentLink6Description: https://datasheet.ciiva.com/1570/1849796-1570200.pdf?src-supplier=Farnell; ComponentLink7URL: https://datasheet.ciiva.com/8042/10195-8042269.pdf?src-supplier=Element14; ComponentLink7Description: https://datasheet.ciiva.com/8042/10195-8042269.pdf?src-supplier=Element14; ComponentLink8URL: https://datasheet.ciiva.com/25980/lm1117-n-25980605.pdf?src-supplier=Avnet+Europe; ComponentLink8Description: https://datasheet.ciiva.com/25980/lm1117-n-25980605.pdf?src-supplier=Avnet+Europe; ComponentLink9URL: https://datasheet.ciiva.com/14149/lm1117-eng-tds-14149978.pdf?src-supplier=Distrelec; ComponentLink9Description: https://datasheet.ciiva.com/14149/lm1117-eng-tds-14149978.pdf?src-supplier=Distrelec; Supplier Part Number 1: LM1117MP-1.8/NOPBCT-ND
pins: 1 VIN, 2 VOUT, 3 GND, 4 TAB

## LM1117MP-3.3
designator *  Manufacturer Part Number 1: LM1117MP-3.3  Max Output Voltage: 3.3V
LDO Regulator Pos 3.3V 0.8A 4-Pin(3+Tab) SOT-223 T/R; Manufacturer 1: TI National Semiconductor; Max Input Voltage: 15V; Number of Outputs: 1; Max Output Current: 800mA; Polarity: Positive; Quiescent Current: 10mA; Accuracy: 1%; Output Type: Fixed; Dropout Voltage: 1.2V; Min Input Voltage: 4.5V; Max Supply Voltage: 10V; Min Supply Voltage: 4.75V; Supplier 1: Arrow Electronics; Stock 1: 0; RoHS: No; Mount: Surface Mount; Case/Package: SOT-223; Number of Pins: 4; Min Operating Temperature: 0°C; Max Operating Temperature: 125°C; Output Voltage: 3.3V; Output Current: 800mA; Packaging: Tape and Reel; Nominal Output Voltage: 3.3V; Output Voltage Accuracy: 1%; Voltage: 3.3V; Radiation Hardening: No; REACH SVHC: No SVHC; RoHS Compliant: No; ComponentLink1URL: https://datasheet.ciiva.com/1511/1685500-1511708.pdf?src-supplier=Element14; ComponentLink1Description: https://datasheet.ciiva.com/1511/1685500-1511708.pdf?src-supplier=Element14; ComponentLink2URL: https://datasheet.ciiva.com/26904/lm1117mp-3-3-26904890.pdf?src-supplier=IIIC; ComponentLink2Description: https://datasheet.ciiva.com/26904/lm1117mp-3-3-26904890.pdf?src-supplier=IIIC; ComponentLink3URL: https://datasheet.ciiva.com/14275/lm1117-n-14275231.pdf?src-supplier=Avnet; ComponentLink3Description: https://datasheet.ciiva.com/14275/lm1117-n-14275231.pdf?src-supplier=Avnet; ComponentLink4URL: https://datasheet.ciiva.com/1511/1685500-1511709.pdf?src-supplier=Element14; ComponentLink4Description: https://datasheet.ciiva.com/1511/1685500-1511709.pdf?src-supplier=Element14; Supplier Part Number 1: LM1117MP-3.3
pins: 1 VIN, 2 VOUT, 3 GND, 4 TAB

## LM1117MP-5.0/NOPB
designator *  Output Voltage: 5V  Manufacturer Part Number 1: LM1117MP-5.0/NOPB
Space saving 800-mA low-dropout linear regulator with internal current limit 4-SOT-223 0 to 125; Manufacturer 1: TI National Semiconductor; Max Output Current: 800mA; Number of Outputs: 1; Max Input Voltage: 15V; Polarity: Positive; Quiescent Current: 5mA; Accuracy: 1%; Output Type: Fixed; Dropout Voltage: 1.2V; Current Rating: 800A; Min Input Voltage: 2.6V; Max Supply Voltage: 12V; Max Supply Current: 10mA; Power Supply Rejection Ratio (PSRR): 75dB; Supplier 1: Arrow Electronics; Stock 1: 2; Pricing 1: 1=1,08320, 1000=0,48480 (USD); RoHS: Yes; Mount: Surface Mount; Case/Package: SOT-223; Number of Pins: 4; Contact Plating: Tin,Matte; Min Operating Temperature: 0°C; Max Operating Temperature: 125°C; Output Current: 800mA; Packaging: Tape and Reel; Nominal Output Voltage: 5V; Output Voltage Accuracy: 1%; Package Quantity: 1000; Number of Regulators: 1; Min Current Limit: 800mA; Series: -; Output Configuration: Positive; Length: 6.5mm; Width: 3.56mm; Height: 1.6mm; Radiation Hardening: No; REACH SVHC: No SVHC; Lead Free: Lead Free; RoHS Compliant: Yes; ComponentLink1URL: https://datasheet.ciiva.com/15111/getdatasheetpartid-68363-15111331.pdf?src-supplier=Verical; ComponentLink1Description: https://datasheet.ciiva.com/15111/getdatasheetpartid-68363-15111331.pdf?src-supplier=Verical; ComponentLink2URL: https://datasheet.ciiva.com/14149/lm1117-eng-tds-14149981.pdf?src-supplier=Distrelec; ComponentLink2Description: https://datasheet.ciiva.com/14149/lm1117-eng-tds-14149981.pdf?src-supplier=Distrelec; ComponentLink3URL: https://datasheet.ciiva.com/25980/lm1117-n-25980317.pdf?src-supplier=Avnet+Europe; ComponentLink3Description: https://datasheet.ciiva.com/25980/lm1117-n-25980317.pdf?src-supplier=Avnet+Europe; ComponentLink4URL: https://datasheet.ciiva.com/6580/lm1117-n-6580058.pdf?src-supplier=Digi-Key; ComponentLink4Description: https://datasheet.ciiva.com/6580/lm1117-n-6580058.pdf?src-supplier=Digi-Key; ComponentLink5URL: https://datasheet.ciiva.com/6580/lm1117-n-6580053.pdf?src-supplier=Digi-Key; ComponentLink5Description: https://datasheet.ciiva.com/6580/lm1117-n-6580053.pdf?src-supplier=Digi-Key; Supplier Part Number 1: LM1117MP-5.0/NOPB
pins: 1 VIN, 2 VOUT, 3 GND, 4 TAB

## LM1117MP-ADJ/NOPB
designator *
footprint LM1117MP-ADJ/NOPB
pins: 1 ADJ/GND (power), 2 OUTPUT (out), 3 INPUT (in), 4 VOUT (out)

## LM2660MX/NOPB
designator *
Charge Pump INV/STPUP -1.5V to -5.5V 120mA 8-Pin SOIC T/R; Manufacturer 1: TI National Semiconductor; Manufacturer Part Number 1: LM2660MX/NOPB; Output Current: 100mA; Logic Function: Inverting; Number of Outputs: 1; Min Supply Voltage: 1.5V; Max Supply Voltage: 5.5V; Switching Frequency: 40kHz; Synchronous Rectifier: No; Quiescent Current: 1mA; Operating Supply Current: 16mA; Supplier 1: Digi-Key; Stock 1: 13332; Pricing 1: 1=1,66000, 10=1,49400, 25=1,40960, 100=1,20110, 250=1,12784, 500=0,98686, 1000=0,93100 (USD); RoHS: Yes; Mount: Surface Mount; Case/Package: SOIC; Number of Pins: 8; Weight: 0.006596oz; Contact Plating: Tin,Matte; Min Operating Temperature: -40°C; Max Operating Temperature: 85°C; Output Voltage: -5.5V; Packaging: Tape and Reel; Max Input Voltage: 5.5V; Min Input Voltage: 1.5V; Radiation Hardening: No; Lead Free: Lead Free; RoHS Compliant: Yes; ComponentLink1URL: https://datasheet.ciiva.com/26909/getdatasheetpartid-767710-26909758.pdf?src-supplier=Verical; ComponentLink1Description: https://datasheet.ciiva.com/26909/getdatasheetpartid-767710-26909758.pdf?src-supplier=Verical; ComponentLink2URL: https://datasheet.ciiva.com/6594/lm2660-6594222.pdf?src-supplier=Digi-Key; ComponentLink2Description: https://datasheet.ciiva.com/6594/lm2660-6594222.pdf?src-supplier=Digi-Key; Supplier Part Number 1: LM2660MX/NOPBCT-ND
pins: 1 FC, 2 CAP+, 3 GND, 4 CAP-, 5 OUT, 6 LV, 7 OSC, 8 V+

## LM4132CMF-2.5/NOPB
designator *  Max Output Voltage: 2.5V  Manufacturer Part Number 1: LM4132CMF-2.5/NOPB
TEXAS INSTRUMENTS         LM4132CMF-2.5/NOPB             Voltage Reference, Precision, Low Dropout, Series - Fixed, LM4132 Series, 2.5V, SOT-23-5; Manufacturer 1: TI National Semiconductor; Max Input Voltage: 6V; Max Output Current: 20mA; Tolerance: 0.2%; Min Input Voltage: 2.2V; Nominal Supply Current: 60uA; Temperature Coefficient: 20ppm/°C; Dropout Voltage: 175mV; Supplier 1: Digi-Key; Stock 1: 1813; Pricing 1: 1=2,66000, 10=2,39000, 25=2,25520, 100=1,92140, 250=1,80412, 500=1,57860 (USD); RoHS: Yes; Mount: Surface Mount; Case/Package: SOT-23; Number of Pins: 5; Min Operating Temperature: -40°C; Max Operating Temperature: 125°C; Output Voltage: 2.5V; Packaging: Tape and Reel; Package Quantity: 1000; Max Supply Voltage: 2.2V; Reference Voltage: 2.5V; Termination: SMD/SMT; Quiescent Current: 60uA; Output Current: 20mA; Reference Type: Series; Series: LM4132; Supply Current: 60uA; Length: 2.92mm; Width: 1.6mm; Height: 1.02mm; Radiation Hardening: No; REACH SVHC: No SVHC; Lead Free: Lead Free; RoHS Compliant: Yes; ComponentLink1URL: https://datasheet.ciiva.com/3236/lm4132-3236045.pdf?src-supplier=Avnet; ComponentLink1Description: https://datasheet.ciiva.com/3236/lm4132-3236045.pdf?src-supplier=Avnet; ComponentLink2URL: https://datasheet.ciiva.com/6597/lm4132-6597429.pdf?src-supplier=Digi-Key; ComponentLink2Description: https://datasheet.ciiva.com/6597/lm4132-6597429.pdf?src-supplier=Digi-Key; ComponentLink3URL: https://datasheet.ciiva.com/6597/lm4132-6597436.pdf?src-supplier=Digi-Key; ComponentLink3Description: https://datasheet.ciiva.com/6597/lm4132-6597436.pdf?src-supplier=Digi-Key; ComponentLink4URL: https://datasheet.ciiva.com/46393/1761467-46393213.pdf?src-supplier=Element14; ComponentLink4Description: https://datasheet.ciiva.com/46393/1761467-46393213.pdf?src-supplier=Element14; Supplier Part Number 1: LM4132CMF-2.5/NOPBCT-ND
pins: 1 NC, 2 GND, 3 EN, 4 VIN, 5 VREF

## TLV2472CDR
designator U?
IC OPAMP GP 2.8MHZ RRO 8SOIC; Manufacturer 1: Texas Instruments; Min Dual Supply Voltage: 1.35V; Max Dual Supply Voltage: 3V; Nominal Supply Current: 1.8mA; Voltage Gain: 120dB; Common Mode Rejection Ratio: 61dB; Number of Channels: 2; Slew Rate: 1.4V/µs; Max I/O Voltage: 2.2mV; Input Bias Current: 50pA; Operating Supply Current: 600uA; Output Current per Channel: 35mA; Max Supply Voltage: 6V; Min Supply Voltage: 2.7V; Power Dissipation: 710mW; Amplifier Type: GENERAL PURPOSE; Supplier 1: Digi-Key; Stock 1: 5061; Pricing 1: 1=2,73000, 10=2,45200, 25=2,31360, 100=1,97110, 250=1,85076, 500=1,61942, 1000=1,52775 (USD); RoHS: Yes; Case/Package: D; Number of Pins: 8; Min Operating Temperature: -40°C; Max Operating Temperature: 125°C; Packaging: Tape and Reel; Unity Gain Bandwidth Product: 2.8MHz; Package Quantity: 2500; Operating Supply Voltage: 3V; Input Offset Voltage (Vos): 2.2mV; Gain Bandwidth Product: 2.8MHz; Number of Circuits: 2; Number of Elements: 2; Bandwidth: 2.8MHz; Output Current: 35mA; Supply Current: 1.8mA; Technology: CMOS; Radiation Hardening: No; Lead Free: Lead Free; RoHS Compliant: Yes; ComponentLink1URL: https://datasheet.ciiva.com/14461/tlv2475a-14461901.pdf?src-supplier=Avnet; ComponentLink1Description: https://datasheet.ciiva.com/14461/tlv2475a-14461901.pdf?src-supplier=Avnet; ComponentLink2URL: https://datasheet.ciiva.com/1798/tlv2470a-1798989.pdf?src-supplier=Digi-Key; ComponentLink2Description: https://datasheet.ciiva.com/1798/tlv2470a-1798989.pdf?src-supplier=Digi-Key; ComponentLink3URL: https://datasheet.ciiva.com/1798/tlv2470a-1798990.pdf?src-supplier=Digi-Key; ComponentLink3Description: https://datasheet.ciiva.com/1798/tlv2470a-1798990.pdf?src-supplier=Digi-Key; ComponentLink4URL: https://datasheet.ciiva.com/1798/tlv2470a-1798991.pdf?src-supplier=Digi-Key; ComponentLink4Description: https://datasheet.ciiva.com/1798/tlv2470a-1798991.pdf?src-supplier=Digi-Key; ComponentLink5URL: https://datasheet.ciiva.com/26226/tlv2475a-26226351.pdf?src-supplier=Avnet+Europe; ComponentLink5Description: https://datasheet.ciiva.com/26226/tlv2475a-26226351.pdf?src-supplier=Avnet+Europe; ComponentLink6URL: https://datasheet.ciiva.com/48711/001071769-da-01-en-ic-opamp-gp-r-r-2-tlv2472cdr-soic-8-tid-48711766.pdf?src-supplier=Conrad; ComponentLink6Description: https://datasheet.ciiva.com/48711/001071769-da-01-en-ic-opamp-gp-r-r-2-tlv2472cdr-soic-8-tid-48711766.pdf?src-supplier=Conrad; Supplier Part Number 1: 296-2440-1-ND
footprint tlv2472 ok
part A pins: 1, 2 -, 3 +
part B pins: 5 +, 6 -, 7
part C pins: 4 GND, 8 VDD
part A text: A
part B text: B

## TLV2474CDR
designator *
OP Amp Quad GP R-R I/O ±3V/6V 14-Pin SOIC T/R; Manufacturer 1: Texas Instruments; Manufacturer Part Number 1: TLV2474CDR; Operating Supply Voltage: 3V; Unity Gain Bandwidth Product: 2.8MHz; Max Supply Voltage: 6V; Min Supply Voltage: 2.7V; Min Dual Supply Voltage: 1.35V; Voltage Gain: 120dB; Output Current: 35mA; Nominal Supply Current: 3.6mA; Common Mode Rejection Ratio: 61dB; Number of Channels: 4; Slew Rate: 1.4V/µs; Max I/O Voltage: 2.2mV; Input Bias Current: 50pA; Operating Supply Current: 600uA; Power Dissipation: 1.022W; Amplifier Type: GENERAL PURPOSE; Supplier 1: Digi-Key; Stock 1: 454; Pricing 1: 1=3,32000, 10=2,98200, 25=2,81920, 100=2,44320, 250=2,31792, 500=2,07984, 1000=2,06850 (USD); RoHS: Yes; Case/Package: D; Number of Pins: 14; Contact Plating: Gold; Min Operating Temperature: -40°C; Max Operating Temperature: 125°C; Max Dual Supply Voltage: 3V; Packaging: Tape and Reel; Package Quantity: 2500; Number of Circuits: 4; Gain Bandwidth Product: 2.8MHz; Input Offset Voltage (Vos): 2.2mV; Output Current per Channel: 35mA; Number of Elements: 4; Bandwidth: 2.8MHz; Supply Current: 3.6mA; Technology: CMOS; Max Power Dissipation: 1.022W; Radiation Hardening: No; Lead Free: Lead Free; RoHS Compliant: Yes; ComponentLink1URL: https://datasheet.ciiva.com/15129/getdatasheetpartid-48315-15129799.pdf?src-supplier=Verical; ComponentLink1Description: https://datasheet.ciiva.com/15129/getdatasheetpartid-48315-15129799.pdf?src-supplier=Verical; ComponentLink2URL: https://datasheet.ciiva.com/1799/tlv2474-1799250.pdf?src-supplier=Digi-Key; ComponentLink2Description: https://datasheet.ciiva.com/1799/tlv2474-1799250.pdf?src-supplier=Digi-Key; ComponentLink3URL: https://datasheet.ciiva.com/1799/tlv2474-1799251.pdf?src-supplier=Digi-Key; ComponentLink3Description: https://datasheet.ciiva.com/1799/tlv2474-1799251.pdf?src-supplier=Digi-Key; ComponentLink4URL: https://datasheet.ciiva.com/1799/tlv2474-1799252.pdf?src-supplier=Digi-Key; ComponentLink4Description: https://datasheet.ciiva.com/1799/tlv2474-1799252.pdf?src-supplier=Digi-Key; ComponentLink5URL: https://datasheet.ciiva.com/14461/tlv2475a-14461878.pdf?src-supplier=Avnet; ComponentLink5Description: https://datasheet.ciiva.com/14461/tlv2475a-14461878.pdf?src-supplier=Avnet; ComponentLink6URL: https://datasheet.ciiva.com/26226/tlv2475a-26226316.pdf?src-supplier=Avnet+Europe; ComponentLink6Description: https://datasheet.ciiva.com/26226/tlv2475a-26226316.pdf?src-supplier=Avnet+Europe; Supplier Part Number 1: 296-2442-1-ND
part A pins: 1, 2 -, 3 +
part B pins: 5 +, 6 -, 7 1
part C pins: 8 1, 9 -, 10 +
part D pins: 12 +, 13 -, 14
part E pins: 4 VDD, 11 GND
part A text: A
part B text: B
part C text: C

## TPS79518DCQR
designator *  Nominal Output Voltage: 1.8V  Manufacturer Part Number 1: TPS79518DCQR
TEXAS INSTRUMENTS         TPS79518DCQR             Fixed LDO Voltage Regulator, 2.7V to 5.5V, 110mV Dropout, 1.8Vout, 500mAout, SOT-223-6; Output Current: 500mA; Number of Outputs: 1; Input Bias Current: 265uA; Min Current Limit: 2.4A; Polarity: Positive; Output Voltage Accuracy: 2%; Quiescent Current: 260uA; Reference Voltage: 1.225V; Supplier 1: Digi-Key; Manufacturer 1: Texas Instruments; Stock 1: 1203; Pricing 1: 1=3,74000, 10=3,35800, 25=3,17440, 100=2,75120, 250=2,61008, 500=2,34202, 1000=2,32925 (USD); RoHS: Yes; Case/Package: SOT-223; Number of Pins: 6; Contact Plating: Gold; Min Operating Temperature: -40°C; Max Operating Temperature: 125°C; Dropout Voltage: 110mV; Output Voltage: 1.8V; Packaging: Tape and Reel; Package Quantity: 1; Max Output Current: 500mA; Max Input Voltage: 5.5V; Min Input Voltage: 2.7V; Number of Regulators: 1; Min Output Voltage: 1.8V; Accuracy: 2%; Max Output Voltage: 1.8V; Output Type: Fixed; Radiation Hardening: No; REACH SVHC: No SVHC; Lead Free: Lead Free; RoHS Compliant: Yes; ComponentLink1URL: https://datasheet.ciiva.com/22704/1829370-22704699.pdf?src-supplier=Element14; ComponentLink1Description: https://datasheet.ciiva.com/22704/1829370-22704699.pdf?src-supplier=Element14; ComponentLink2URL: https://datasheet.ciiva.com/41462/001015131-da-01-en-ic-reg-ldo-1-8v-0-tps79518dcqr-sot-6-tid-41462977.pdf?src-supplier=Conrad; ComponentLink2Description: https://datasheet.ciiva.com/41462/001015131-da-01-en-ic-reg-ldo-1-8v-0-tps79518dcqr-sot-6-tid-41462977.pdf?src-supplier=Conrad; ComponentLink3URL: https://datasheet.ciiva.com/28673/1887499-28673525.pdf?src-supplier=Element14; ComponentLink3Description: https://datasheet.ciiva.com/28673/1887499-28673525.pdf?src-supplier=Element14; Supplier Part Number 1: 296-13808-1-ND
pins: 1 EN, 2 IN, 3 GND, 4 OUT, 5 NR/FB, 6 GND

## TPS79533DCQR
designator *  Nominal Output Voltage: 3.3V  Manufacturer Part Number 1: TPS79533DCQR
LDO Regulator Pos 3.3V 0.5A 6-Pin(5+Tab) SOT-223 T/R; Manufacturer 1: Texas Instruments; Dropout Voltage: 105mV; Output Current: 500mA; Number of Outputs: 1; Max Input Voltage: 5.5V; Min Input Voltage: 2.7V; Input Bias Current: 265uA; Min Current Limit: 2.4A; Polarity: Positive; Output Voltage Accuracy: 2%; Quiescent Current: 260uA; Output Type: Fixed; Reference Voltage: 1.225V; Supplier 1: Digi-Key; Stock 1: 0; Pricing 1: 1=3,74000, 10=3,35800, 25=3,17440, 100=2,75120, 250=2,61008, 500=2,34202, 1000=2,32925 (USD); RoHS: Yes; Case/Package: SOT-223; Number of Pins: 6; Contact Plating: Gold; Min Operating Temperature: -40°C; Max Operating Temperature: 125°C; Output Voltage: 3.3V; Package Quantity: 1; Packaging: Tape and Reel; Max Output Current: 500mA; Number of Regulators: 1; Min Output Voltage: 3.3V; Accuracy: 2%; Max Output Voltage: 3.3V; Radiation Hardening: No; REACH SVHC: No SVHC; Lead Free: Lead Free; RoHS Compliant: Yes; ComponentLink1URL: https://datasheet.ciiva.com/22704/1846881-22704700.pdf?src-supplier=Element14; ComponentLink1Description: https://datasheet.ciiva.com/22704/1846881-22704700.pdf?src-supplier=Element14; Supplier Part Number 1: 296-13810-6-ND
pins: 1 EN, 2 IN, 3 GND, 4 OUT, 5 NR/FB, 6 GND

## USBUF02W6
designator *  Manufacturer Part Number 1: USBUF02W6
STMICROELECTRONICS - USBUF02W6 - Analogue Filter, Lowpass, 2nd, SOT-323 RoHS Compliant: Yes; Number of Channels: 2; Capacitance: 47pF; Tolerance: 10%; DC Resistance (DCR): 33R; Test Frequency: 30MHz; Supplier 1: Digi-Key; Manufacturer 1: STMicroelectronics; Stock 1: 13685; Pricing 1: 1=0,68000, 10=0,64900, 25=0,62840, 50=0,51320, 100=0,46080, 250=0,41896, 500=0,39800, 1000=0,35611 (USD); RoHS: Yes; Mount: Surface Mount; Case/Package: SOT-323; Number of Pins: 6; Min Operating Temperature: -40°C; Max Operating Temperature: 70°C; Packaging: Tape and Reel; Package Quantity: 1; ESD Protection: Yes; Termination: Gull Wing; Series: ASD; Length: 2.2mm; Width: 1.35mm; Height: 0.043inch; Depth: 2.4mm; Radiation Hardening: No; REACH SVHC: No SVHC; Lead Free: Lead Free; ComponentLink1URL: https://datasheet.ciiva.com/11795/0900766b8097d6dc-11795459.pdf?src-supplier=RSComponents; ComponentLink1Description: https://datasheet.ciiva.com/11795/0900766b8097d6dc-11795459.pdf?src-supplier=RSComponents; ComponentLink2URL: https://datasheet.ciiva.com/26793/usbuf02w6-26793358.pdf?src-supplier=IIIC; ComponentLink2Description: https://datasheet.ciiva.com/26793/usbuf02w6-26793358.pdf?src-supplier=IIIC; ComponentLink3URL: https://datasheet.ciiva.com/6212/cd00002046-6212812.pdf?src-supplier=Digi-Key; ComponentLink3Description: https://datasheet.ciiva.com/6212/cd00002046-6212812.pdf?src-supplier=Digi-Key; ComponentLink4URL: https://datasheet.ciiva.com/6212/cd00002046-6212814.pdf?src-supplier=Digi-Key; ComponentLink4Description: https://datasheet.ciiva.com/6212/cd00002046-6212814.pdf?src-supplier=Digi-Key; ComponentLink5URL: https://datasheet.ciiva.com/4479/cd00002046-4479544.pdf?src-supplier=Mouser; ComponentLink5Description: https://datasheet.ciiva.com/4479/cd00002046-4479544.pdf?src-supplier=Mouser; ComponentLink6URL: https://datasheet.ciiva.com/15162/getdatasheetpartid-131618-15162460.pdf?src-supplier=Verical; ComponentLink6Description: https://datasheet.ciiva.com/15162/getdatasheetpartid-131618-15162460.pdf?src-supplier=Verical; Supplier Part Number 1: 497-3743-1-ND
pins: 3V3, D1, D2, D3, D4, GND